# Altium integrated library WE-WPCC Wireless Power Charging Receiver Coil.IntLib: 4 symbols
Pins are listed as number, name and electrical type; pins without a type are passive.

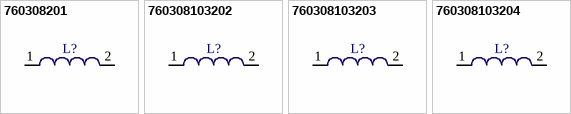
[diagram p0: symbols 760308201 to 760308103204]

## 760308201
designator L?
Wireless Power Charging Coil  WE-WPCC, L=10.0 µH; PartNumber: 760308201; Inductance: 10.0 µH; PackageReference: 3737; ComponentLink1Description: Manufacturer URL; ComponentLink1URL: http://www.we-online.com; ComponentLink2Description: Datasheet; ComponentLink2URL: http://katalog.we-online.de/kataloge/eisos/media/pdf/760308201.pdf
footprint 3737 (THT Charging Coil ,2 Pin, Body 37x37mm)
pins: 1, 2

## 760308103202
designator L?
Wireless Power Charging Coil  WE-WPCC, L=12.0 µH; PartNumber: 760308103202; Inductance: 12.0 µH; PackageReference: 4832; ComponentLink1Description: Manufacturer URL; ComponentLink1URL: http://www.we-online.com; ComponentLink2Description: Datasheet; ComponentLink2URL: http://katalog.we-online.de/kataloge/eisos/media/pdf/760308103202.pdf
footprint 4832 (THT Charging Coil ,2 Pin, Body 48x32mm)
pins: 1, 2

## 760308103203
designator L?
Wireless Power Charging Coil  WE-WPCC, L=12.0 µH; PartNumber: 760308103203; Inductance: 12.0 µH; PackageReference: 4832; ComponentLink1Description: Manufacturer URL; ComponentLink1URL: http://www.we-online.com; ComponentLink2Description: Datasheet; ComponentLink2URL: http://katalog.we-online.de/kataloge/eisos/media/pdf/760308103203.pdf
footprint 4832 (THT Charging Coil ,2 Pin, Body 48x32mm)
pins: 1, 2

## 760308103204
designator L?
Wireless Power Charging Coil  WE-WPCC, L=16.7 µH; PartNumber: 760308103204; Inductance: 16.7 µH; PackageReference: 3830; ComponentLink1Description: Manufacturer URL; ComponentLink1URL: http://www.we-online.com; ComponentLink2Description: Datasheet; ComponentLink2URL: http://katalog.we-online.de/kataloge/eisos/media/pdf/760308103204.pdf
footprint 3830 (THT Charging Coil ,2 Pin, Body 38.5x30.5mm)
pins: 1, 2